# Altium schematic symbol library diodes-inc-diode.SchLib: 23 symbols
Pins are listed as number, name and electrical type; pins without a type are passive.

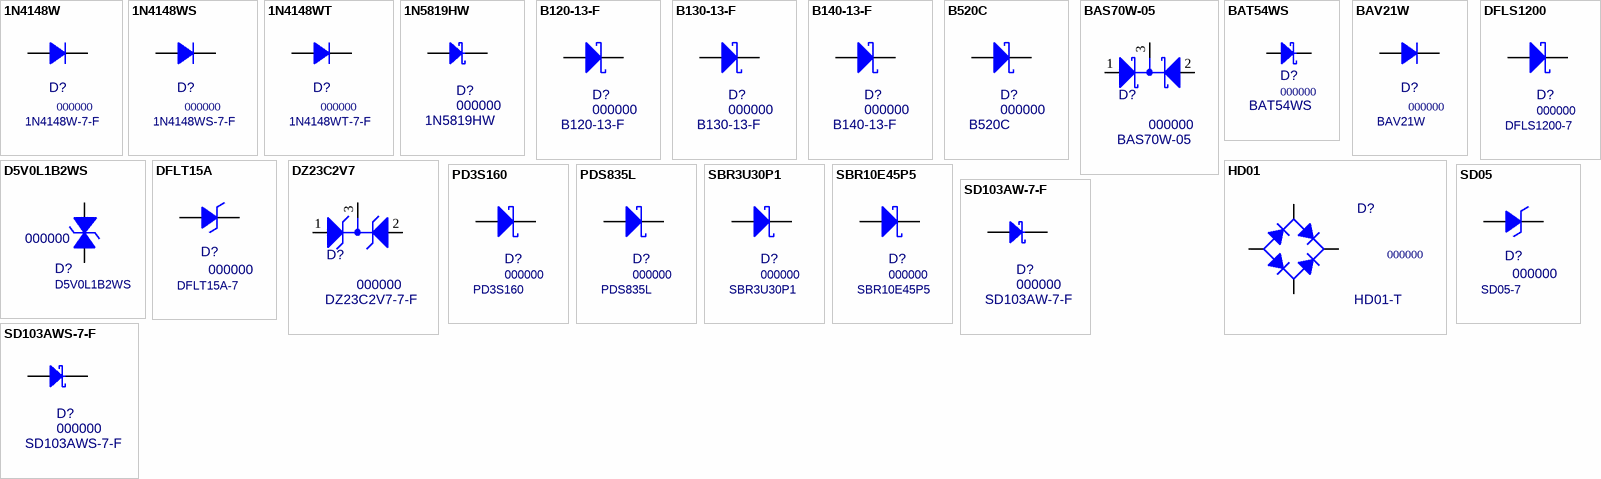
[diagram p0: symbols 1N4148W to SD103AWS-7-F]

## 1N4148W
designator D?, comment 000000  MF PN: 1N4148W-7-F
Fast Switching Diode 100V 150mA; MF: Diodes Inc; Value: 1N4148W; PN: 000000; Package: SOD-123; ExtraInfo: *
footprint SOD-123 (Molded Diode, 2-Leads)
simulation model 1N4148W (SRC=1N4148W;1N4148W;Diodes;Si;  75.0V  0.300A  4.00ns   Diodes Inc)
pins: 1 A, 2 K

## 1N4148WS
designator D?, comment 000000  MF PN: 1N4148WS-7-F
Fast Switching Diode 100V 150mA; MF: Diodes Inc; Value: 1N4148WS; PN: 000000; Package: SOD-323; ExtraInfo: *
simulation model 1N4148W (SRC=1N4148W;1N4148W;Diodes;Si;  75.0V  0.300A  4.00ns   Diodes Inc)
footprint SOD-323-M (Molded Diode, 2-Leads, Medium Density)
pins: 1 A, 2 K

## 1N4148WT
designator D?, comment 000000  MF PN: 1N4148WT-7-F
Fast Switching Diode 75V 200mA; MF: Diodes Inc; Value: 1N4148WT; PN: 000000; Package: SOD-523F; ExtraInfo: *; Digi-Key PN: 1N4148WTTR-ND; Price: 0.04514
simulation model 1N4148W (SRC=1N4148W;1N4148W;Diodes;Si;  75.0V  0.300A  4.00ns   Diodes Inc)
footprint SOD-523-M (Molded Diode, 2-Leads)
pins: 1 A, 2 K

## 1N5819HW
designator D?, comment 000000  value 1N5819HW
40V 1A Schottky Barrier Diode; MF: Diodes Inc; MF PN: 1N5819HW-7-F; PN: 000000; Package: SOD-123; ExtraInfo: *; Digi-Key PN: 1N5819HW-FDICT-ND; Price: 0.12085
footprint SOD-123 (Molded Diode, 2-Leads)
simulation model DI_1N5819HW (Schottky)
pins: 1 A, 2 K

## B120-13-F
designator D?, comment 000000  value B120-13-F
Schottky Barrier Rectifier, 20V, !A; MF: Diodes Inc; PN: 000000; Package: *; ExtraInfo: *
footprint SMA (Molded Diode, 2-Leads, Body 4.3x2.6mm, IPC Medium Density)
pins: 1 A, 2 K

## B130-13-F
designator D?, comment 000000  value B130-13-F
Schottky Barrier Rectifier, 30V, !A; MF: Diodes Inc; PN: 000000; Package: *; ExtraInfo: *
footprint SMA (Molded Diode, 2-Leads, Body 4.3x2.6mm, IPC Medium Density)
pins: 1 A, 2 K

## B140-13-F
designator D?, comment 000000  value B140-13-F
Schottky Barrier Rectifier, 40V, !A; MF: Diodes Inc; PN: 000000; Package: *; ExtraInfo: *
footprint SMA (Molded Diode, 2-Leads, Body 4.3x2.6mm, IPC Medium Density)
pins: 1 A, 2 K

## B520C
designator D?, comment 000000  value B520C
Schottky Barrier Rectifier; MF: Diodes Inc; PN: 000000; Package: *; ExtraInfo: *
footprint SMA (Molded Diode, 2-Leads, Body 4.3x2.6mm, IPC Medium Density)
pins: 1 A, 2 K

## BAS70W-05
designator D?, comment 000000  value BAS70W-05
Schottky Barrier Double Diode  70V 70mA; MF: Diodes Inc; Package: SOT-323; PN: 000000; ExtraInfo: *
footprint SOT-323 (SC-70/SOT323)
pins: 1 A1, 2 A2, 3 K

## BAT54WS
designator D?, comment 000000  value BAT54WS
Schottky Barrier Diode 30V 100mA; MF: Diodes Inc; MF PN: BAT54WS-7-F; PN: 000000; Package: SOD-323; ExtraInfo: *; Price: 0.03927; Digi-Key PN: BAT54WS-FDICT-ND
footprint SOD-323-M (Molded Diode, 2-Leads, Medium Density)
pins: 1 A, 2 K

## BAV21W
designator D?, comment 000000  MF PN: BAV21W
Fast Switching Diode 200V 200mA; MF: Diodes Inc; Value: BAV21W; PN: 000000; Package: SOD-123; ExtraInfo: *
footprint SOD-123 (Molded Diode, 2-Leads)
simulation model DI_BAV21W (SRC=BAV21W;DI_BAV21W;Diodes;Si;  200V  0.400A  50.0ns   Diodes Inc. -)
pins: 1 A, 2 K

## D5V0L1B2WS
designator D?, comment 000000  value D5V0L1B2WS
Bidirectional Transiet Voltage Suppressor; MF: Diodes Inc; PN: 000000; Package: SMA; ExtraInfo: *
footprint SOD-323-M (Molded Diode, 2-Leads, Medium Density)
pins: 1 A, 2 K

## DFLS1200
designator D?, comment 000000  value DFLS1200-7
Schottky Barrier Rectifier 200V 1A; MF: Diodes Inc; PN: 000000; Package: PowerDI 123; ExtraInfo: *
footprint PowerDI 123 (Molded Diode, 2-Leads)
pins: 1 A, 2 K

## DFLT15A
designator D?, comment 000000  value DFLT15A-7
SMT Transiet Voltage Suppressor; MF: Diodes Inc; PN: 000000; ExtraInfo: *
footprint PowerDI 123 (Molded Diode, 2-Leads)
pins: 1 A, 2 K

## DZ23C2V7
designator D?, comment 000000  value DZ23C2V7-7-F
Dual Zenner 2.7V 300mW Common Cathode; MF: Diodes Inc; Package: SOT-23; PN: 000000; ExtraInfo: *
footprint SOT-23 (SOT23, 3-Leads, Body 3.0x2.8mm (max), Pitch 0.95mm, IPC High Density)
pins: 1 A1, 2 A2, 3 K

## HD01
designator D?, comment 000000  value HD01-T
SMD Bridge Rectifier 100V 0.8A; MF: Diodes Inc; PN: 000000; Package: MiniDIP; ExtraInfo: *
footprint MiniDIP-4 (SOIC, 4-Leads, Body 4.9x4.0mm (max), Pitch 1.27mm, IPC Medium Density)
pins: 1 K, 2 A, 3 C, 4 C

## PD3S160
designator D?, comment 000000  value PD3S160
Sshottky Barrier Rectifier 60V 1A; MF: Diodes Inc; PN: 000000; Package: PowerDI 123; ExtraInfo: *
footprint PowerDI 123 (Molded Diode, 2-Leads)
simulation model DI_PD3S160 (SRC=PS3S160;DI_PD3S160;Diodes;Si;  60.0V  1.00A  13.0ns   Diodes INC Schottky rectifier)
pins: 1 A, 2 K

## PDS835L
designator D?, comment 000000  value PDS835L
Shottky Barrier Rectifier 25V 8A; MF PN: PDS835L-13; MF: Diodes Inc; PN: 000000; Package: PowerDI 5; ExtraInfo: *; Digi-Key PN: PDS835LDICT-ND; Price: 0.80369
footprint PowerDI 5 (Molded Diode, 2-Leads)
simulation model DI_PD3S160 (SRC=PS3S160;DI_PD3S160;Diodes;Si;  60.0V  1.00A  13.0ns   Diodes INC Schottky rectifier)
pins: 1 A, 2 K

## SBR3U30P1
designator D?, comment 000000  value SBR3U30P1
Super Barrier Rectifier 40V 3A; MF: Diodes Inc; PN: 000000; Package: PowerDI 123; ExtraInfo: *
footprint PowerDI 123 (Molded Diode, 2-Leads)
simulation model DI_SBR3U30P1 (SRC=SBR3U30P1;DI_SBR3U30P1;Diodes;Si;  30.0V  3.00A  12.0ns   Diodes INC Schottky rectifier)
pins: 1 A, 2 K

## SBR10E45P5
designator D?, comment 000000  value SBR10E45P5
Shottky Barrier Rectifier 45V 10A; MF: Diodes Inc; PN: 000000; Package: PowerDI 5; ExtraInfo: *
footprint PowerDI 5 (Molded Diode, 2-Leads)
simulation model DI_PD3S160 (SRC=PS3S160;DI_PD3S160;Diodes;Si;  60.0V  1.00A  13.0ns   Diodes INC Schottky rectifier)
pins: 1 A, 2 K

## SD05
designator D?, comment 000000  value SD05-7
SMT Transiet Voltage Suppressor; MF: Diodes Inc; PN: 000000; Package: SOD-323; ExtraInfo: *
footprint SOD-323 (Molded Diode, 2-Leads)
pins: 1 A, 2 K

## SD103AW-7-F
designator D?, comment 000000  value SD103AW-7-F
40V 350mA Schottky Barrier Diode; MF: Diodes Inc; PN: 000000; Package: SOD-123; ExtraInfo: *
footprint SOD-123 (Molded Diode, 2-Leads)
simulation model DI_SD103AW (SRC=SD103AW;DI_SD103AW;Diodes;Si;  40.0V  0.350A  10.0ns   Diodes Inc. Schottky)
pins: 1 A, 2 K

## SD103AWS-7-F
designator D?, comment 000000  value SD103AWS-7-F
40V 350mA Schottky Barrier Diode; MF: Diodes Inc; PN: 000000; Package: SOD-323; ExtraInfo: *
footprint SOD-323 (Molded Diode, 2-Leads)
simulation model DI_SD103AW (SRC=SD103AW;DI_SD103AW;Diodes;Si;  40.0V  0.350A  10.0ns   Diodes Inc. Schottky)
pins: 1 A, 2 K